# Altium schematic symbol library Diodes.SchLib: 448 symbols (part 1 of 10)
Pins are listed as number, name and electrical type; pins without a type are passive.

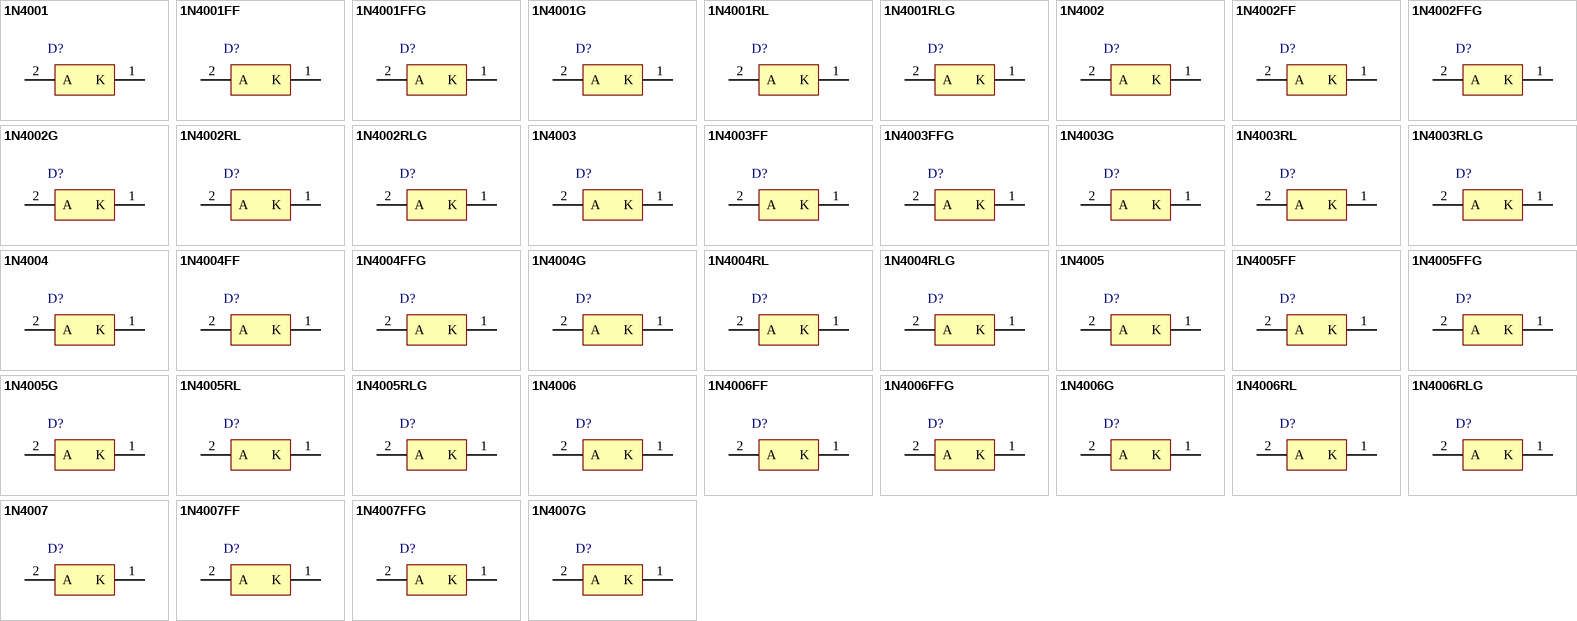
[diagram p0: symbols 1N4001 to 1N4007G]

## 1N4001
designator D?
Standard Recovery Rectifier, 2-Pin Axial_Lead, Pb-Free, Bulk Bag; Manufacturer: On Semiconductor; PartNumber: 1N4001; IFSM Max (A): 30; IO(rec) Max (A): 1; VRRM Max (V): 50; DatasheetVersion: Rev. 13; PackageVersion: Rev. U, 02/2005; PackageReference: AXIAL_LEAD-2-59-10; PackageDescription: 2-Pin, Axial Lead, Diameter 2.35 mm; Supplier 1: Digi-Key; Supplier Part Number 1: 1N4001OS-ND; Packing: Bulk Bag; RoHS: TRUE; Type: Standard Recovery; Mounting Technology: Through Hole; ComponentLink1Description: Manufacturer URL; ComponentLink1URL: http://www.onsemi.com/; ComponentLink2Description: Datasheet; ComponentLink2URL: http://www.onsemi.com/pub_link/Collateral/1N4001-D.PDF; ComponentLink3Description: Package Specification; ComponentLink3URL: http://www.onsemi.cn/pub_link/Collateral/59-10.PDF
footprint ONSC-AXIAL_LEAD-2-59-10_P (AXIAL, 2-Leads, Diameter 2.35mm)
pins: 1 K, 2 A

## 1N4001FF
designator D?
Standard Recovery Rectifier, 2-Pin Axial_Lead, Pb-Free, Bulk Box; Manufacturer: On Semiconductor; PartNumber: 1N4001FF; IFSM Max (A): 30; IO(rec) Max (A): 1; VRRM Max (V): 50; DatasheetVersion: Rev. 13; PackageVersion: Rev. U, 02/2005; PackageReference: AXIAL_LEAD-2-59-10; PackageDescription: 2-Pin, Axial Lead, Diameter 2.35 mm; Supplier 1: Mouser; Supplier Part Number 1: 863-1N4001FF; Packing: Bulk Box; RoHS: TRUE; Type: Standard Recovery; Mounting Technology: Through Hole; ComponentLink1Description: Manufacturer URL; ComponentLink1URL: http://www.onsemi.com/; ComponentLink2Description: Datasheet; ComponentLink2URL: http://www.onsemi.com/pub_link/Collateral/1N4001-D.PDF; ComponentLink3Description: Package Specification; ComponentLink3URL: http://www.onsemi.cn/pub_link/Collateral/59-10.PDF
footprint ONSC-AXIAL_LEAD-2-59-10_P (AXIAL, 2-Leads, Diameter 2.35mm)
pins: 1 K, 2 A

## 1N4001FFG
designator D?
Standard Recovery Rectifier, 2-Pin Axial_Lead, Pb-Free, Bulk Box; Manufacturer: On Semiconductor; PartNumber: 1N4001FFG; IFSM Max (A): 30; IO(rec) Max (A): 1; VRRM Max (V): 50; DatasheetVersion: Rev. 13; PackageVersion: Rev. U, 02/2005; PackageReference: AXIAL_LEAD-2-59-10; PackageDescription: 2-Pin, Axial Lead, Diameter 2.35 mm; Supplier 1: Mouser; Supplier Part Number 1: 863-1N4001FFG; Packing: Bulk Box; RoHS: TRUE; Type: Standard Recovery; Mounting Technology: Through Hole; ComponentLink1Description: Manufacturer URL; ComponentLink1URL: http://www.onsemi.com/; ComponentLink2Description: Datasheet; ComponentLink2URL: http://www.onsemi.com/pub_link/Collateral/1N4001-D.PDF; ComponentLink3Description: Package Specification; ComponentLink3URL: http://www.onsemi.cn/pub_link/Collateral/59-10.PDF
footprint ONSC-AXIAL_LEAD-2-59-10_P (AXIAL, 2-Leads, Diameter 2.35mm)
pins: 1 K, 2 A

## 1N4001G
designator D?
Standard Recovery Rectifier, 2-Pin Axial_Lead, Pb-Free, Bulk Bag; Manufacturer: On Semiconductor; PartNumber: 1N4001G; IFSM Max (A): 30; IO(rec) Max (A): 1; VRRM Max (V): 50; DatasheetVersion: Rev. 13; PackageVersion: Rev. U, 02/2005; PackageReference: AXIAL_LEAD-2-59-10; PackageDescription: 2-Pin, Axial Lead, Diameter 2.35 mm; Supplier 1: Digi-Key; Supplier Part Number 1: 1N4001GOS-ND; Supplier 2: Farnell; Supplier Part Number 2: 1458986; Supplier 3: Newark; Supplier Part Number 3: 42K2813; Supplier 4: Mouser; Supplier Part Number 4: 863-1N4001G; Packing: Bulk Bag; RoHS: TRUE; Type: Standard Recovery; Mounting Technology: Through Hole; ComponentLink1Description: Manufacturer URL; ComponentLink1URL: http://www.onsemi.com/; ComponentLink2Description: Datasheet; ComponentLink2URL: http://www.onsemi.com/pub_link/Collateral/1N4001-D.PDF; ComponentLink3Description: Package Specification; ComponentLink3URL: http://www.onsemi.cn/pub_link/Collateral/59-10.PDF
footprint ONSC-AXIAL_LEAD-2-59-10_P (AXIAL, 2-Leads, Diameter 2.35mm)
pins: 1 K, 2 A

## 1N4001RL
designator D?
Standard Recovery Rectifier, 2-Pin Axial_Lead, Pb-Free, Tape and Reel; Manufacturer: On Semiconductor; PartNumber: 1N4001RL; IFSM Max (A): 30; IO(rec) Max (A): 1; VRRM Max (V): 50; DatasheetVersion: Rev. 13; PackageVersion: Rev. U, 02/2005; PackageReference: AXIAL_LEAD-2-59-10; PackageDescription: 2-Pin, Axial Lead, Diameter 2.35 mm; Supplier 1: Digi-Key; Supplier Part Number 1: 1N4001RLOSTR-ND; Supplier 2: Digi-Key; Supplier Part Number 2: 1N4001RLOSCT-ND; Supplier 3: Mouser; Supplier Part Number 3: 863-1N4001RL; Packing: Tape and Reel; RoHS: TRUE; Type: Standard Recovery; Mounting Technology: Through Hole; ComponentLink1Description: Manufacturer URL; ComponentLink1URL: http://www.onsemi.com/; ComponentLink2Description: Datasheet; ComponentLink2URL: http://www.onsemi.com/pub_link/Collateral/1N4001-D.PDF; ComponentLink3Description: Package Specification; ComponentLink3URL: http://www.onsemi.cn/pub_link/Collateral/59-10.PDF
footprint ONSC-AXIAL_LEAD-2-59-10_P (AXIAL, 2-Leads, Diameter 2.35mm)
pins: 1 K, 2 A

## 1N4001RLG
designator D?
Standard Recovery Rectifier, 2-Pin Axial_Lead, Pb-Free, Tape and Reel; Manufacturer: On Semiconductor; PartNumber: 1N4001RLG; IFSM Max (A): 30; IO(rec) Max (A): 1; VRRM Max (V): 50; DatasheetVersion: Rev. 13; PackageVersion: Rev. U, 02/2005; PackageReference: AXIAL_LEAD-2-59-10; PackageDescription: 2-Pin, Axial Lead, Diameter 2.35 mm; Supplier 1: Digi-Key; Supplier Part Number 1: 1N4001RLGOSTR-ND; Supplier 2: Digi-Key; Supplier Part Number 2: 1N4001RLGOSCT-ND; Supplier 3: Farnell; Supplier Part Number 3: 1861230; Supplier 4: Newark; Supplier Part Number 4: 09R9749; Supplier 5: Newark; Supplier Part Number 5: 42K2814; Supplier 6: Mouser; Supplier Part Number 6: 863-1N4001RLG; Packing: Tape and Reel; RoHS: TRUE; Type: Standard Recovery; Mounting Technology: Through Hole; ComponentLink1Description: Manufacturer URL; ComponentLink1URL: http://www.onsemi.com/; ComponentLink2Description: Datasheet; ComponentLink2URL: http://www.onsemi.com/pub_link/Collateral/1N4001-D.PDF; ComponentLink3Description: Package Specification; ComponentLink3URL: http://www.onsemi.cn/pub_link/Collateral/59-10.PDF
footprint ONSC-AXIAL_LEAD-2-59-10_P (AXIAL, 2-Leads, Diameter 2.35mm)
pins: 1 K, 2 A

## 1N4002
designator D?
Standard Recovery Rectifier, 2-Pin Axial_Lead, Pb-Free, Bulk Bag; Manufacturer: On Semiconductor; PartNumber: 1N4002; IFSM Max (A): 30; IO(rec) Max (A): 1; VRRM Max (V): 100; DatasheetVersion: Rev. 13; PackageVersion: Rev. U, 02/2005; PackageReference: AXIAL_LEAD-2-59-10; PackageDescription: 2-Pin, Axial Lead, Diameter 2.35 mm; Supplier 1: Digi-Key; Supplier Part Number 1: 1N4002OS-ND; Packing: Bulk Bag; RoHS: TRUE; Type: Standard Recovery; Mounting Technology: Through Hole; ComponentLink1Description: Manufacturer URL; ComponentLink1URL: http://www.onsemi.com/; ComponentLink2Description: Datasheet; ComponentLink2URL: http://www.onsemi.com/pub_link/Collateral/1N4001-D.PDF; ComponentLink3Description: Package Specification; ComponentLink3URL: http://www.onsemi.cn/pub_link/Collateral/59-10.PDF
footprint ONSC-AXIAL_LEAD-2-59-10_P (AXIAL, 2-Leads, Diameter 2.35mm)
pins: 1 K, 2 A

## 1N4002FF
designator D?
Standard Recovery Rectifier, 2-Pin Axial_Lead, Pb-Free, Bulk Box; Manufacturer: On Semiconductor; PartNumber: 1N4002FF; IFSM Max (A): 30; IO(rec) Max (A): 1; VRRM Max (V): 100; DatasheetVersion: Rev. 13; PackageVersion: Rev. U, 02/2005; PackageReference: AXIAL_LEAD-2-59-10; PackageDescription: 2-Pin, Axial Lead, Diameter 2.35 mm; Supplier 1: Newark; Supplier Part Number 1: 75C8519; Supplier 2: Mouser; Supplier Part Number 2: 863-1N4002FF; Packing: Bulk Box; RoHS: TRUE; Type: Standard Recovery; Mounting Technology: Through Hole; ComponentLink1Description: Manufacturer URL; ComponentLink1URL: http://www.onsemi.com/; ComponentLink2Description: Datasheet; ComponentLink2URL: http://www.onsemi.com/pub_link/Collateral/1N4001-D.PDF; ComponentLink3Description: Package Specification; ComponentLink3URL: http://www.onsemi.cn/pub_link/Collateral/59-10.PDF
footprint ONSC-AXIAL_LEAD-2-59-10_P (AXIAL, 2-Leads, Diameter 2.35mm)
pins: 1 K, 2 A

## 1N4002FFG
designator D?
Standard Recovery Rectifier, 2-Pin Axial_Lead, Pb-Free, Bulk Box; Manufacturer: On Semiconductor; PartNumber: 1N4002FFG; IFSM Max (A): 30; IO(rec) Max (A): 1; VRRM Max (V): 100; DatasheetVersion: Rev. 13; PackageVersion: Rev. U, 02/2005; PackageReference: AXIAL_LEAD-2-59-10; PackageDescription: 2-Pin, Axial Lead, Diameter 2.35 mm; Supplier 1: Mouser; Supplier Part Number 1: 863-1N4002FFG; Packing: Bulk Box; RoHS: TRUE; Type: Standard Recovery; Mounting Technology: Through Hole; ComponentLink1Description: Manufacturer URL; ComponentLink1URL: http://www.onsemi.com/; ComponentLink2Description: Datasheet; ComponentLink2URL: http://www.onsemi.com/pub_link/Collateral/1N4001-D.PDF; ComponentLink3Description: Package Specification; ComponentLink3URL: http://www.onsemi.cn/pub_link/Collateral/59-10.PDF
footprint ONSC-AXIAL_LEAD-2-59-10_P (AXIAL, 2-Leads, Diameter 2.35mm)
pins: 1 K, 2 A

## 1N4002G
designator D?
Standard Recovery Rectifier, 2-Pin Axial_Lead, Pb-Free, Bulk Bag; Manufacturer: On Semiconductor; PartNumber: 1N4002G; IFSM Max (A): 30; IO(rec) Max (A): 1; VRRM Max (V): 100; DatasheetVersion: Rev. 13; PackageVersion: Rev. U, 02/2005; PackageReference: AXIAL_LEAD-2-59-10; PackageDescription: 2-Pin, Axial Lead, Diameter 2.35 mm; Supplier 1: Digi-Key; Supplier Part Number 1: 1N4002GOS-ND; Supplier 2: Farnell; Supplier Part Number 2: 1651083; Supplier 3: Newark; Supplier Part Number 3: 42K2816; Supplier 4: Mouser; Supplier Part Number 4: 863-1N4002G; Packing: Bulk Bag; RoHS: TRUE; Type: Standard Recovery; Mounting Technology: Through Hole; ComponentLink1Description: Manufacturer URL; ComponentLink1URL: http://www.onsemi.com/; ComponentLink2Description: Datasheet; ComponentLink2URL: http://www.onsemi.com/pub_link/Collateral/1N4001-D.PDF; ComponentLink3Description: Package Specification; ComponentLink3URL: http://www.onsemi.cn/pub_link/Collateral/59-10.PDF
footprint ONSC-AXIAL_LEAD-2-59-10_P (AXIAL, 2-Leads, Diameter 2.35mm)
pins: 1 K, 2 A

## 1N4002RL
designator D?
Standard Recovery Rectifier, 2-Pin Axial_Lead, Pb-Free, Tape and Reel; Manufacturer: On Semiconductor; PartNumber: 1N4002RL; IFSM Max (A): 30; IO(rec) Max (A): 1; VRRM Max (V): 100; DatasheetVersion: Rev. 13; PackageVersion: Rev. U, 02/2005; PackageReference: AXIAL_LEAD-2-59-10; PackageDescription: 2-Pin, Axial Lead, Diameter 2.35 mm; Supplier 1: Digi-Key; Supplier Part Number 1: 1N4002RLOSTR-ND; Supplier 2: Digi-Key; Supplier Part Number 2: 1N4002RLOSCT-ND; Supplier 3: Mouser; Supplier Part Number 3: 863-1N4002RL; Packing: Tape and Reel; RoHS: TRUE; Type: Standard Recovery; Mounting Technology: Through Hole; ComponentLink1Description: Manufacturer URL; ComponentLink1URL: http://www.onsemi.com/; ComponentLink2Description: Datasheet; ComponentLink2URL: http://www.onsemi.com/pub_link/Collateral/1N4001-D.PDF; ComponentLink3Description: Package Specification; ComponentLink3URL: http://www.onsemi.cn/pub_link/Collateral/59-10.PDF
footprint ONSC-AXIAL_LEAD-2-59-10_P (AXIAL, 2-Leads, Diameter 2.35mm)
pins: 1 K, 2 A

## 1N4002RLG
designator D?
Standard Recovery Rectifier, 2-Pin Axial_Lead, Pb-Free, Tape and Reel; Manufacturer: On Semiconductor; PartNumber: 1N4002RLG; IFSM Max (A): 30; IO(rec) Max (A): 1; VRRM Max (V): 100; DatasheetVersion: Rev. 13; PackageVersion: Rev. U, 02/2005; PackageReference: AXIAL_LEAD-2-59-10; PackageDescription: 2-Pin, Axial Lead, Diameter 2.35 mm; Supplier 1: Digi-Key; Supplier Part Number 1: 1N4002RLGOSTR-ND; Supplier 2: Digi-Key; Supplier Part Number 2: 1N4002RLGOSCT-ND; Supplier 3: Farnell; Supplier Part Number 3: 1264225; Supplier 4: Farnell; Supplier Part Number 4: 1876165; Supplier 5: Newark; Supplier Part Number 5: 42K2817; Supplier 6: Newark; Supplier Part Number 6: 84K8825; Supplier 7: Mouser; Supplier Part Number 7: 863-1N4002RLG; Packing: Tape and Reel; RoHS: TRUE; Type: Standard Recovery; Mounting Technology: Through Hole; ComponentLink1Description: Manufacturer URL; ComponentLink1URL: http://www.onsemi.com/; ComponentLink2Description: Datasheet; ComponentLink2URL: http://www.onsemi.com/pub_link/Collateral/1N4001-D.PDF; ComponentLink3Description: Package Specification; ComponentLink3URL: http://www.onsemi.cn/pub_link/Collateral/59-10.PDF
footprint ONSC-AXIAL_LEAD-2-59-10_P (AXIAL, 2-Leads, Diameter 2.35mm)
pins: 1 K, 2 A

## 1N4003
designator D?
Standard Recovery Rectifier, 2-Pin Axial_Lead, Pb-Free, Bulk Bag; Manufacturer: On Semiconductor; PartNumber: 1N4003; IFSM Max (A): 30; IO(rec) Max (A): 1; VRRM Max (V): 200; DatasheetVersion: Rev. 13; PackageVersion: Rev. U, 02/2005; PackageReference: AXIAL_LEAD-2-59-10; PackageDescription: 2-Pin, Axial Lead, Diameter 2.35 mm; Supplier 1: Digi-Key; Supplier Part Number 1: 1N4003OS-ND; Packing: Bulk Bag; RoHS: TRUE; Type: Standard Recovery; Mounting Technology: Through Hole; ComponentLink1Description: Manufacturer URL; ComponentLink1URL: http://www.onsemi.com/; ComponentLink2Description: Datasheet; ComponentLink2URL: http://www.onsemi.com/pub_link/Collateral/1N4001-D.PDF; ComponentLink3Description: Package Specification; ComponentLink3URL: http://www.onsemi.cn/pub_link/Collateral/59-10.PDF
footprint ONSC-AXIAL_LEAD-2-59-10_P (AXIAL, 2-Leads, Diameter 2.35mm)
pins: 1 K, 2 A

## 1N4003FF
designator D?
Standard Recovery Rectifier, 2-Pin Axial_Lead, Pb-Free, Bulk Box; Manufacturer: On Semiconductor; PartNumber: 1N4003FF; IFSM Max (A): 30; IO(rec) Max (A): 1; VRRM Max (V): 200; DatasheetVersion: Rev. 13; PackageVersion: Rev. U, 02/2005; PackageReference: AXIAL_LEAD-2-59-10; PackageDescription: 2-Pin, Axial Lead, Diameter 2.35 mm; Supplier 1: Mouser; Supplier Part Number 1: 863-1N4003FF; Packing: Bulk Box; RoHS: TRUE; Type: Standard Recovery; Mounting Technology: Through Hole; ComponentLink1Description: Manufacturer URL; ComponentLink1URL: http://www.onsemi.com/; ComponentLink2Description: Datasheet; ComponentLink2URL: http://www.onsemi.com/pub_link/Collateral/1N4001-D.PDF; ComponentLink3Description: Package Specification; ComponentLink3URL: http://www.onsemi.cn/pub_link/Collateral/59-10.PDF
footprint ONSC-AXIAL_LEAD-2-59-10_P (AXIAL, 2-Leads, Diameter 2.35mm)
pins: 1 K, 2 A

## 1N4003FFG
designator D?
Standard Recovery Rectifier, 2-Pin Axial_Lead, Pb-Free, Bulk Box; Manufacturer: On Semiconductor; PartNumber: 1N4003FFG; IFSM Max (A): 30; IO(rec) Max (A): 1; VRRM Max (V): 200; DatasheetVersion: Rev. 13; PackageVersion: Rev. U, 02/2005; PackageReference: AXIAL_LEAD-2-59-10; PackageDescription: 2-Pin, Axial Lead, Diameter 2.35 mm; Supplier 1: Mouser; Supplier Part Number 1: 863-1N4003FFG; Packing: Bulk Box; RoHS: TRUE; Type: Standard Recovery; Mounting Technology: Through Hole; ComponentLink1Description: Manufacturer URL; ComponentLink1URL: http://www.onsemi.com/; ComponentLink2Description: Datasheet; ComponentLink2URL: http://www.onsemi.com/pub_link/Collateral/1N4001-D.PDF; ComponentLink3Description: Package Specification; ComponentLink3URL: http://www.onsemi.cn/pub_link/Collateral/59-10.PDF
footprint ONSC-AXIAL_LEAD-2-59-10_P (AXIAL, 2-Leads, Diameter 2.35mm)
pins: 1 K, 2 A

## 1N4003G
designator D?
Standard Recovery Rectifier, 2-Pin Axial_Lead, Pb-Free, Bulk Bag; Manufacturer: On Semiconductor; PartNumber: 1N4003G; IFSM Max (A): 30; IO(rec) Max (A): 1; VRRM Max (V): 200; DatasheetVersion: Rev. 13; PackageVersion: Rev. U, 02/2005; PackageReference: AXIAL_LEAD-2-59-10; PackageDescription: 2-Pin, Axial Lead, Diameter 2.35 mm; Supplier 1: Digi-Key; Supplier Part Number 1: 1N4003GOS-ND; Supplier 2: Farnell; Supplier Part Number 2: 1126298; Supplier 3: Newark; Supplier Part Number 3: 42K2819; Supplier 4: Mouser; Supplier Part Number 4: 863-1N4003G; Packing: Bulk Bag; RoHS: TRUE; Type: Standard Recovery; Mounting Technology: Through Hole; ComponentLink1Description: Manufacturer URL; ComponentLink1URL: http://www.onsemi.com/; ComponentLink2Description: Datasheet; ComponentLink2URL: http://www.onsemi.com/pub_link/Collateral/1N4001-D.PDF; ComponentLink3Description: Package Specification; ComponentLink3URL: http://www.onsemi.cn/pub_link/Collateral/59-10.PDF
footprint ONSC-AXIAL_LEAD-2-59-10_P (AXIAL, 2-Leads, Diameter 2.35mm)
pins: 1 K, 2 A

## 1N4003RL
designator D?
Standard Recovery Rectifier, 2-Pin Axial_Lead, Pb-Free, Tape and Reel; Manufacturer: On Semiconductor; PartNumber: 1N4003RL; IFSM Max (A): 30; IO(rec) Max (A): 1; VRRM Max (V): 200; DatasheetVersion: Rev. 13; PackageVersion: Rev. U, 02/2005; PackageReference: AXIAL_LEAD-2-59-10; PackageDescription: 2-Pin, Axial Lead, Diameter 2.35 mm; Supplier 1: Digi-Key; Supplier Part Number 1: 1N4003RLOSTR-ND; Supplier 2: Digi-Key; Supplier Part Number 2: 1N4003RLOSCT-ND; Supplier 3: Mouser; Supplier Part Number 3: 863-1N4003RL; Packing: Tape and Reel; RoHS: TRUE; Type: Standard Recovery; Mounting Technology: Through Hole; ComponentLink1Description: Manufacturer URL; ComponentLink1URL: http://www.onsemi.com/; ComponentLink2Description: Datasheet; ComponentLink2URL: http://www.onsemi.com/pub_link/Collateral/1N4001-D.PDF; ComponentLink3Description: Package Specification; ComponentLink3URL: http://www.onsemi.cn/pub_link/Collateral/59-10.PDF
footprint ONSC-AXIAL_LEAD-2-59-10_P (AXIAL, 2-Leads, Diameter 2.35mm)
pins: 1 K, 2 A

## 1N4003RLG
designator D?
Standard Recovery Rectifier, 2-Pin Axial_Lead, Pb-Free, Tape and Reel; Manufacturer: On Semiconductor; PartNumber: 1N4003RLG; IFSM Max (A): 30; IO(rec) Max (A): 1; VRRM Max (V): 200; DatasheetVersion: Rev. 13; PackageVersion: Rev. U, 02/2005; PackageReference: AXIAL_LEAD-2-59-10; PackageDescription: 2-Pin, Axial Lead, Diameter 2.35 mm; Supplier 1: Digi-Key; Supplier Part Number 1: 1N4003RLGOSTR-ND; Supplier 2: Digi-Key; Supplier Part Number 2: 1N4003RLGOSCT-ND; Supplier 3: Farnell; Supplier Part Number 3: 1278505; Supplier 4: Farnell; Supplier Part Number 4: 1899546; Supplier 5: Newark; Supplier Part Number 5: 42K2820; Supplier 6: Newark; Supplier Part Number 6: 84K8826; Supplier 7: Mouser; Supplier Part Number 7: 863-1N4003RLG; Packing: Tape and Reel; RoHS: TRUE; Type: Standard Recovery; Mounting Technology: Through Hole; ComponentLink1Description: Manufacturer URL; ComponentLink1URL: http://www.onsemi.com/; ComponentLink2Description: Datasheet; ComponentLink2URL: http://www.onsemi.com/pub_link/Collateral/1N4001-D.PDF; ComponentLink3Description: Package Specification; ComponentLink3URL: http://www.onsemi.cn/pub_link/Collateral/59-10.PDF
footprint ONSC-AXIAL_LEAD-2-59-10_P (AXIAL, 2-Leads, Diameter 2.35mm)
pins: 1 K, 2 A

## 1N4004
designator D?
Standard Recovery Rectifier, 2-Pin Axial_Lead, Pb-Free, Bulk Bag; Manufacturer: On Semiconductor; PartNumber: 1N4004; IFSM Max (A): 30; IO(rec) Max (A): 1; VRRM Max (V): 400; DatasheetVersion: Rev. 13; PackageVersion: Rev. U, 02/2005; PackageReference: AXIAL_LEAD-2-59-10; PackageDescription: 2-Pin, Axial Lead, Diameter 2.35 mm; Supplier 1: Digi-Key; Supplier Part Number 1: 1N4004OS-ND; Packing: Bulk Bag; RoHS: TRUE; Type: Standard Recovery; Mounting Technology: Through Hole; ComponentLink1Description: Manufacturer URL; ComponentLink1URL: http://www.onsemi.com/; ComponentLink2Description: Datasheet; ComponentLink2URL: http://www.onsemi.com/pub_link/Collateral/1N4001-D.PDF; ComponentLink3Description: Package Specification; ComponentLink3URL: http://www.onsemi.cn/pub_link/Collateral/59-10.PDF
footprint ONSC-AXIAL_LEAD-2-59-10_P (AXIAL, 2-Leads, Diameter 2.35mm)
pins: 1 K, 2 A

## 1N4004FF
designator D?
Standard Recovery Rectifier, 2-Pin Axial_Lead, Pb-Free, Bulk Box; Manufacturer: On Semiconductor; PartNumber: 1N4004FF; IFSM Max (A): 30; IO(rec) Max (A): 1; VRRM Max (V): 400; DatasheetVersion: Rev. 13; PackageVersion: Rev. U, 02/2005; PackageReference: AXIAL_LEAD-2-59-10; PackageDescription: 2-Pin, Axial Lead, Diameter 2.35 mm; Supplier 1: Mouser; Supplier Part Number 1: 863-1N4004FF; Packing: Bulk Box; RoHS: TRUE; Type: Standard Recovery; Mounting Technology: Through Hole; ComponentLink1Description: Manufacturer URL; ComponentLink1URL: http://www.onsemi.com/; ComponentLink2Description: Datasheet; ComponentLink2URL: http://www.onsemi.com/pub_link/Collateral/1N4001-D.PDF; ComponentLink3Description: Package Specification; ComponentLink3URL: http://www.onsemi.cn/pub_link/Collateral/59-10.PDF
footprint ONSC-AXIAL_LEAD-2-59-10_P (AXIAL, 2-Leads, Diameter 2.35mm)
pins: 1 K, 2 A

## 1N4004FFG
designator D?
Standard Recovery Rectifier, 2-Pin Axial_Lead, Pb-Free, Bulk Box; Manufacturer: On Semiconductor; PartNumber: 1N4004FFG; IFSM Max (A): 30; IO(rec) Max (A): 1; VRRM Max (V): 400; DatasheetVersion: Rev. 13; PackageVersion: Rev. U, 02/2005; PackageReference: AXIAL_LEAD-2-59-10; PackageDescription: 2-Pin, Axial Lead, Diameter 2.35 mm; Supplier 1: Mouser; Supplier Part Number 1: 863-1N4004FFG; Packing: Bulk Box; RoHS: TRUE; Type: Standard Recovery; Mounting Technology: Through Hole; ComponentLink1Description: Manufacturer URL; ComponentLink1URL: http://www.onsemi.com/; ComponentLink2Description: Datasheet; ComponentLink2URL: http://www.onsemi.com/pub_link/Collateral/1N4001-D.PDF; ComponentLink3Description: Package Specification; ComponentLink3URL: http://www.onsemi.cn/pub_link/Collateral/59-10.PDF
footprint ONSC-AXIAL_LEAD-2-59-10_P (AXIAL, 2-Leads, Diameter 2.35mm)
pins: 1 K, 2 A

## 1N4004G
designator D?
Standard Recovery Rectifier, 2-Pin Axial_Lead, Pb-Free, Bulk Bag; Manufacturer: On Semiconductor; PartNumber: 1N4004G; IFSM Max (A): 30; IO(rec) Max (A): 1; VRRM Max (V): 400; DatasheetVersion: Rev. 13; PackageVersion: Rev. U, 02/2005; PackageReference: AXIAL_LEAD-2-59-10; PackageDescription: 2-Pin, Axial Lead, Diameter 2.35 mm; Supplier 1: Digi-Key; Supplier Part Number 1: 1N4004GOS-ND; Supplier 2: Farnell; Supplier Part Number 2: 1651084; Supplier 3: Newark; Supplier Part Number 3: 42K2822; Supplier 4: Mouser; Supplier Part Number 4: 863-1N4004G; Packing: Bulk Bag; RoHS: TRUE; Type: Standard Recovery; Mounting Technology: Through Hole; ComponentLink1Description: Manufacturer URL; ComponentLink1URL: http://www.onsemi.com/; ComponentLink2Description: Datasheet; ComponentLink2URL: http://www.onsemi.com/pub_link/Collateral/1N4001-D.PDF; ComponentLink3Description: Package Specification; ComponentLink3URL: http://www.onsemi.cn/pub_link/Collateral/59-10.PDF
footprint ONSC-AXIAL_LEAD-2-59-10_P (AXIAL, 2-Leads, Diameter 2.35mm)
pins: 1 K, 2 A

## 1N4004RL
designator D?
Standard Recovery Rectifier, 2-Pin Axial_Lead, Pb-Free, Tape and Reel; Manufacturer: On Semiconductor; PartNumber: 1N4004RL; IFSM Max (A): 30; IO(rec) Max (A): 1; VRRM Max (V): 400; DatasheetVersion: Rev. 13; PackageVersion: Rev. U, 02/2005; PackageReference: AXIAL_LEAD-2-59-10; PackageDescription: 2-Pin, Axial Lead, Diameter 2.35 mm; Supplier 1: Digi-Key; Supplier Part Number 1: 1N4004RLOSTR-ND; Supplier 2: Farnell; Supplier Part Number 2: 9556109; Supplier 3: Newark; Supplier Part Number 3: 39K0589; Supplier 4: Newark; Supplier Part Number 4: 16F8295; Supplier 5: Mouser; Supplier Part Number 5: 863-1N4004RL; Packing: Tape and Reel; RoHS: TRUE; Type: Standard Recovery; Mounting Technology: Through Hole; ComponentLink1Description: Manufacturer URL; ComponentLink1URL: http://www.onsemi.com/; ComponentLink2Description: Datasheet; ComponentLink2URL: http://www.onsemi.com/pub_link/Collateral/1N4001-D.PDF; ComponentLink3Description: Package Specification; ComponentLink3URL: http://www.onsemi.cn/pub_link/Collateral/59-10.PDF
footprint ONSC-AXIAL_LEAD-2-59-10_P (AXIAL, 2-Leads, Diameter 2.35mm)
pins: 1 K, 2 A

## 1N4004RLG
designator D?
Standard Recovery Rectifier, 2-Pin Axial_Lead, Pb-Free, Tape and Reel; Manufacturer: On Semiconductor; PartNumber: 1N4004RLG; IFSM Max (A): 30; IO(rec) Max (A): 1; VRRM Max (V): 400; DatasheetVersion: Rev. 13; PackageVersion: Rev. U, 02/2005; PackageReference: AXIAL_LEAD-2-59-10; PackageDescription: 2-Pin, Axial Lead, Diameter 2.35 mm; Supplier 1: Digi-Key; Supplier Part Number 1: 1N4004RLGOSTR-ND; Supplier 2: Digi-Key; Supplier Part Number 2: 1N4004RLGOSCT-ND; Supplier 3: Farnell; Supplier Part Number 3: 2317685; Supplier 4: Farnell; Supplier Part Number 4: 1278506; Supplier 5: Newark; Supplier Part Number 5: 42K2823; Supplier 6: Newark; Supplier Part Number 6: 84K8827; Supplier 7: Mouser; Supplier Part Number 7: 863-1N4004RLG; Packing: Tape and Reel; RoHS: TRUE; Type: Standard Recovery; Mounting Technology: Through Hole; ComponentLink1Description: Manufacturer URL; ComponentLink1URL: http://www.onsemi.com/; ComponentLink2Description: Datasheet; ComponentLink2URL: http://www.onsemi.com/pub_link/Collateral/1N4001-D.PDF; ComponentLink3Description: Package Specification; ComponentLink3URL: http://www.onsemi.cn/pub_link/Collateral/59-10.PDF
footprint ONSC-AXIAL_LEAD-2-59-10_P (AXIAL, 2-Leads, Diameter 2.35mm)
pins: 1 K, 2 A

## 1N4005
designator D?
Standard Recovery Rectifier, 2-Pin Axial_Lead, Pb-Free, Bulk Bag; Manufacturer: On Semiconductor; PartNumber: 1N4005; IFSM Max (A): 30; IO(rec) Max (A): 1; VRRM Max (V): 600; DatasheetVersion: Rev. 13; PackageVersion: Rev. U, 02/2005; PackageReference: AXIAL_LEAD-2-59-10; PackageDescription: 2-Pin, Axial Lead, Diameter 2.35 mm; Supplier 1: Digi-Key; Supplier Part Number 1: 1N4005OS-ND; Packing: Bulk Bag; RoHS: TRUE; Type: Standard Recovery; Mounting Technology: Through Hole; ComponentLink1Description: Manufacturer URL; ComponentLink1URL: http://www.onsemi.com/; ComponentLink2Description: Datasheet; ComponentLink2URL: http://www.onsemi.com/pub_link/Collateral/1N4001-D.PDF; ComponentLink3Description: Package Specification; ComponentLink3URL: http://www.onsemi.cn/pub_link/Collateral/59-10.PDF
footprint ONSC-AXIAL_LEAD-2-59-10_P (AXIAL, 2-Leads, Diameter 2.35mm)
pins: 1 K, 2 A

## 1N4005FF
designator D?
Standard Recovery Rectifier, 2-Pin Axial_Lead, Pb-Free, Bulk Box; Manufacturer: On Semiconductor; PartNumber: 1N4005FF; IFSM Max (A): 30; IO(rec) Max (A): 1; VRRM Max (V): 600; DatasheetVersion: Rev. 13; PackageVersion: Rev. U, 02/2005; PackageReference: AXIAL_LEAD-2-59-10; PackageDescription: 2-Pin, Axial Lead, Diameter 2.35 mm; Supplier 1: Mouser; Supplier Part Number 1: 863-1N4005FF; Packing: Bulk Box; RoHS: TRUE; Type: Standard Recovery; Mounting Technology: Through Hole; ComponentLink1Description: Manufacturer URL; ComponentLink1URL: http://www.onsemi.com/; ComponentLink2Description: Datasheet; ComponentLink2URL: http://www.onsemi.com/pub_link/Collateral/1N4001-D.PDF; ComponentLink3Description: Package Specification; ComponentLink3URL: http://www.onsemi.cn/pub_link/Collateral/59-10.PDF
footprint ONSC-AXIAL_LEAD-2-59-10_P (AXIAL, 2-Leads, Diameter 2.35mm)
pins: 1 K, 2 A

## 1N4005FFG
designator D?
Standard Recovery Rectifier, 2-Pin Axial_Lead, Pb-Free, Bulk Box; Manufacturer: On Semiconductor; PartNumber: 1N4005FFG; IFSM Max (A): 30; IO(rec) Max (A): 1; VRRM Max (V): 600; DatasheetVersion: Rev. 13; PackageVersion: Rev. U, 02/2005; PackageReference: AXIAL_LEAD-2-59-10; PackageDescription: 2-Pin, Axial Lead, Diameter 2.35 mm; Supplier 1: Mouser; Supplier Part Number 1: 863-1N4005FFG; Packing: Bulk Box; RoHS: TRUE; Type: Standard Recovery; Mounting Technology: Through Hole; ComponentLink1Description: Manufacturer URL; ComponentLink1URL: http://www.onsemi.com/; ComponentLink2Description: Datasheet; ComponentLink2URL: http://www.onsemi.com/pub_link/Collateral/1N4001-D.PDF; ComponentLink3Description: Package Specification; ComponentLink3URL: http://www.onsemi.cn/pub_link/Collateral/59-10.PDF
footprint ONSC-AXIAL_LEAD-2-59-10_P (AXIAL, 2-Leads, Diameter 2.35mm)
pins: 1 K, 2 A

## 1N4005G
designator D?
Standard Recovery Rectifier, 2-Pin Axial_Lead, Pb-Free, Bulk Bag; Manufacturer: On Semiconductor; PartNumber: 1N4005G; IFSM Max (A): 30; IO(rec) Max (A): 1; VRRM Max (V): 600; DatasheetVersion: Rev. 13; PackageVersion: Rev. U, 02/2005; PackageReference: AXIAL_LEAD-2-59-10; PackageDescription: 2-Pin, Axial Lead, Diameter 2.35 mm; Supplier 1: Digi-Key; Supplier Part Number 1: 1N4005GOS-ND; Supplier 2: Farnell; Supplier Part Number 2: 1096695; Supplier 3: Newark; Supplier Part Number 3: 42K2825; Supplier 4: Mouser; Supplier Part Number 4: 863-1N4005G; Packing: Bulk Bag; RoHS: TRUE; Type: Standard Recovery; Mounting Technology: Through Hole; ComponentLink1Description: Manufacturer URL; ComponentLink1URL: http://www.onsemi.com/; ComponentLink2Description: Datasheet; ComponentLink2URL: http://www.onsemi.com/pub_link/Collateral/1N4001-D.PDF; ComponentLink3Description: Package Specification; ComponentLink3URL: http://www.onsemi.cn/pub_link/Collateral/59-10.PDF
footprint ONSC-AXIAL_LEAD-2-59-10_P (AXIAL, 2-Leads, Diameter 2.35mm)
pins: 1 K, 2 A

## 1N4005RL
designator D?
Standard Recovery Rectifier, 2-Pin Axial_Lead, Pb-Free, Tape and Reel; Manufacturer: On Semiconductor; PartNumber: 1N4005RL; IFSM Max (A): 30; IO(rec) Max (A): 1; VRRM Max (V): 600; DatasheetVersion: Rev. 13; PackageVersion: Rev. U, 02/2005; PackageReference: AXIAL_LEAD-2-59-10; PackageDescription: 2-Pin, Axial Lead, Diameter 2.35 mm; Supplier 1: Digi-Key; Supplier Part Number 1: 1N4005RLOSTR-ND; Supplier 2: Mouser; Supplier Part Number 2: 863-1N4005RL; Packing: Tape and Reel; RoHS: TRUE; Type: Standard Recovery; Mounting Technology: Through Hole; ComponentLink1Description: Manufacturer URL; ComponentLink1URL: http://www.onsemi.com/; ComponentLink2Description: Datasheet; ComponentLink2URL: http://www.onsemi.com/pub_link/Collateral/1N4001-D.PDF; ComponentLink3Description: Package Specification; ComponentLink3URL: http://www.onsemi.cn/pub_link/Collateral/59-10.PDF
footprint ONSC-AXIAL_LEAD-2-59-10_P (AXIAL, 2-Leads, Diameter 2.35mm)
pins: 1 K, 2 A

## 1N4005RLG
designator D?
Standard Recovery Rectifier, 2-Pin Axial_Lead, Pb-Free, Tape and Reel; Manufacturer: On Semiconductor; PartNumber: 1N4005RLG; IFSM Max (A): 30; IO(rec) Max (A): 1; VRRM Max (V): 600; DatasheetVersion: Rev. 13; PackageVersion: Rev. U, 02/2005; PackageReference: AXIAL_LEAD-2-59-10; PackageDescription: 2-Pin, Axial Lead, Diameter 2.35 mm; Supplier 1: Digi-Key; Supplier Part Number 1: 1N4005RLGOSTR-ND; Supplier 2: Digi-Key; Supplier Part Number 2: 1N4005RLGOSCT-ND; Supplier 3: Farnell; Supplier Part Number 3: 1278507; Supplier 4: Farnell; Supplier Part Number 4: 1899547; Supplier 5: Newark; Supplier Part Number 5: 42K2826; Supplier 6: Newark; Supplier Part Number 6: 84K8828; Supplier 7: Mouser; Supplier Part Number 7: 863-1N4005RLG; Packing: Tape and Reel; RoHS: TRUE; Type: Standard Recovery; Mounting Technology: Through Hole; ComponentLink1Description: Manufacturer URL; ComponentLink1URL: http://www.onsemi.com/; ComponentLink2Description: Datasheet; ComponentLink2URL: http://www.onsemi.com/pub_link/Collateral/1N4001-D.PDF; ComponentLink3Description: Package Specification; ComponentLink3URL: http://www.onsemi.cn/pub_link/Collateral/59-10.PDF
footprint ONSC-AXIAL_LEAD-2-59-10_P (AXIAL, 2-Leads, Diameter 2.35mm)
pins: 1 K, 2 A

## 1N4006
designator D?
Standard Recovery Rectifier, 2-Pin Axial_Lead, Pb-Free, Bulk Bag; Manufacturer: On Semiconductor; PartNumber: 1N4006; IFSM Max (A): 30; IO(rec) Max (A): 1; VRRM Max (V): 800; DatasheetVersion: Rev. 13; PackageVersion: Rev. U, 02/2005; PackageReference: AXIAL_LEAD-2-59-10; PackageDescription: 2-Pin, Axial Lead, Diameter 2.35 mm; Supplier 1: Digi-Key; Supplier Part Number 1: 1N4006OS-ND; Packing: Bulk Bag; RoHS: TRUE; Type: Standard Recovery; Mounting Technology: Through Hole; ComponentLink1Description: Manufacturer URL; ComponentLink1URL: http://www.onsemi.com/; ComponentLink2Description: Datasheet; ComponentLink2URL: http://www.onsemi.com/pub_link/Collateral/1N4001-D.PDF; ComponentLink3Description: Package Specification; ComponentLink3URL: http://www.onsemi.cn/pub_link/Collateral/59-10.PDF
footprint ONSC-AXIAL_LEAD-2-59-10_P (AXIAL, 2-Leads, Diameter 2.35mm)
pins: 1 K, 2 A

## 1N4006FF
designator D?
Standard Recovery Rectifier, 2-Pin Axial_Lead, Pb-Free, Bulk Box; Manufacturer: On Semiconductor; PartNumber: 1N4006FF; IFSM Max (A): 30; IO(rec) Max (A): 1; VRRM Max (V): 800; DatasheetVersion: Rev. 13; PackageVersion: Rev. U, 02/2005; PackageReference: AXIAL_LEAD-2-59-10; PackageDescription: 2-Pin, Axial Lead, Diameter 2.35 mm; Supplier 1: Digi-Key; Supplier Part Number 1: 1N4006FF-ND; Supplier 2: Mouser; Supplier Part Number 2: 863-1N4006FF; Packing: Bulk Box; RoHS: TRUE; Type: Standard Recovery; Mounting Technology: Through Hole; ComponentLink1Description: Manufacturer URL; ComponentLink1URL: http://www.onsemi.com/; ComponentLink2Description: Datasheet; ComponentLink2URL: http://www.onsemi.com/pub_link/Collateral/1N4001-D.PDF; ComponentLink3Description: Package Specification; ComponentLink3URL: http://www.onsemi.cn/pub_link/Collateral/59-10.PDF
footprint ONSC-AXIAL_LEAD-2-59-10_P (AXIAL, 2-Leads, Diameter 2.35mm)
pins: 1 K, 2 A

## 1N4006FFG
designator D?
Standard Recovery Rectifier, 2-Pin Axial_Lead, Pb-Free, Bulk Box; Manufacturer: On Semiconductor; PartNumber: 1N4006FFG; IFSM Max (A): 30; IO(rec) Max (A): 1; VRRM Max (V): 800; DatasheetVersion: Rev. 13; PackageVersion: Rev. U, 02/2005; PackageReference: AXIAL_LEAD-2-59-10; PackageDescription: 2-Pin, Axial Lead, Diameter 2.35 mm; Supplier 1: Digi-Key; Supplier Part Number 1: 1N4006FFG-ND; Supplier 2: Mouser; Supplier Part Number 2: 863-1N4006FFG; Packing: Bulk Box; RoHS: TRUE; Type: Standard Recovery; Mounting Technology: Through Hole; ComponentLink1Description: Manufacturer URL; ComponentLink1URL: http://www.onsemi.com/; ComponentLink2Description: Datasheet; ComponentLink2URL: http://www.onsemi.com/pub_link/Collateral/1N4001-D.PDF; ComponentLink3Description: Package Specification; ComponentLink3URL: http://www.onsemi.cn/pub_link/Collateral/59-10.PDF
footprint ONSC-AXIAL_LEAD-2-59-10_P (AXIAL, 2-Leads, Diameter 2.35mm)
pins: 1 K, 2 A

## 1N4006G
designator D?
Standard Recovery Rectifier, 2-Pin Axial_Lead, Pb-Free, Bulk Bag; Manufacturer: On Semiconductor; PartNumber: 1N4006G; IFSM Max (A): 30; IO(rec) Max (A): 1; VRRM Max (V): 800; DatasheetVersion: Rev. 13; PackageVersion: Rev. U, 02/2005; PackageReference: AXIAL_LEAD-2-59-10; PackageDescription: 2-Pin, Axial Lead, Diameter 2.35 mm; Supplier 1: Digi-Key; Supplier Part Number 1: 1N4006GOS-ND; Supplier 2: Farnell; Supplier Part Number 2: 1126300; Supplier 3: Newark; Supplier Part Number 3: 42K2828; Supplier 4: Mouser; Supplier Part Number 4: 863-1N4006G; Packing: Bulk Bag; RoHS: TRUE; Type: Standard Recovery; Mounting Technology: Through Hole; ComponentLink1Description: Manufacturer URL; ComponentLink1URL: http://www.onsemi.com/; ComponentLink2Description: Datasheet; ComponentLink2URL: http://www.onsemi.com/pub_link/Collateral/1N4001-D.PDF; ComponentLink3Description: Package Specification; ComponentLink3URL: http://www.onsemi.cn/pub_link/Collateral/59-10.PDF
footprint ONSC-AXIAL_LEAD-2-59-10_P (AXIAL, 2-Leads, Diameter 2.35mm)
pins: 1 K, 2 A

## 1N4006RL
designator D?
Standard Recovery Rectifier, 2-Pin Axial_Lead, Pb-Free, Tape and Reel; Manufacturer: On Semiconductor; PartNumber: 1N4006RL; IFSM Max (A): 30; IO(rec) Max (A): 1; VRRM Max (V): 800; DatasheetVersion: Rev. 13; PackageVersion: Rev. U, 02/2005; PackageReference: AXIAL_LEAD-2-59-10; PackageDescription: 2-Pin, Axial Lead, Diameter 2.35 mm; Supplier 1: Digi-Key; Supplier Part Number 1: 1N4006RLOSTR-ND; Supplier 2: Digi-Key; Supplier Part Number 2: 1N4006RLOSCT-ND; Supplier 3: Mouser; Supplier Part Number 3: 863-1N4006RL; Packing: Tape and Reel; RoHS: TRUE; Type: Standard Recovery; Mounting Technology: Through Hole; ComponentLink1Description: Manufacturer URL; ComponentLink1URL: http://www.onsemi.com/; ComponentLink2Description: Datasheet; ComponentLink2URL: http://www.onsemi.com/pub_link/Collateral/1N4001-D.PDF; ComponentLink3Description: Package Specification; ComponentLink3URL: http://www.onsemi.cn/pub_link/Collateral/59-10.PDF
footprint ONSC-AXIAL_LEAD-2-59-10_P (AXIAL, 2-Leads, Diameter 2.35mm)
pins: 1 K, 2 A

## 1N4006RLG
designator D?
Standard Recovery Rectifier, 2-Pin Axial_Lead, Pb-Free, Tape and Reel; Manufacturer: On Semiconductor; PartNumber: 1N4006RLG; IFSM Max (A): 30; IO(rec) Max (A): 1; VRRM Max (V): 800; DatasheetVersion: Rev. 13; PackageVersion: Rev. U, 02/2005; PackageReference: AXIAL_LEAD-2-59-10; PackageDescription: 2-Pin, Axial Lead, Diameter 2.35 mm; Supplier 1: Digi-Key; Supplier Part Number 1: 1N4006RLGOSTR-ND; Supplier 2: Digi-Key; Supplier Part Number 2: 1N4006RLGOSCT-ND; Supplier 3: Farnell; Supplier Part Number 3: 1278508; Supplier 4: Farnell; Supplier Part Number 4: 1878536; Supplier 5: Newark; Supplier Part Number 5: 84K8829; Supplier 6: Newark; Supplier Part Number 6: 42K2829; Supplier 7: Mouser; Supplier Part Number 7: 863-1N4006RLG; Packing: Tape and Reel; RoHS: TRUE; Type: Standard Recovery; Mounting Technology: Through Hole; ComponentLink1Description: Manufacturer URL; ComponentLink1URL: http://www.onsemi.com/; ComponentLink2Description: Datasheet; ComponentLink2URL: http://www.onsemi.com/pub_link/Collateral/1N4001-D.PDF; ComponentLink3Description: Package Specification; ComponentLink3URL: http://www.onsemi.cn/pub_link/Collateral/59-10.PDF
footprint ONSC-AXIAL_LEAD-2-59-10_P (AXIAL, 2-Leads, Diameter 2.35mm)
pins: 1 K, 2 A

## 1N4007
designator D?
Standard Recovery Rectifier, 2-Pin Axial_Lead, Pb-Free, Bulk Bag; Manufacturer: On Semiconductor; PartNumber: 1N4007; IFSM Max (A): 30; IO(rec) Max (A): 1; VRRM Max (V): 1000; DatasheetVersion: Rev. 13; PackageVersion: Rev. U, 02/2005; PackageReference: AXIAL_LEAD-2-59-10; PackageDescription: 2-Pin, Axial Lead, Diameter 2.35 mm; Supplier 1: Digi-Key; Supplier Part Number 1: 1N4007-ND; Packing: Bulk Bag; RoHS: TRUE; Type: Standard Recovery; Mounting Technology: Through Hole; ComponentLink1Description: Manufacturer URL; ComponentLink1URL: http://www.onsemi.com/; ComponentLink2Description: Datasheet; ComponentLink2URL: http://www.onsemi.com/pub_link/Collateral/1N4001-D.PDF; ComponentLink3Description: Package Specification; ComponentLink3URL: http://www.onsemi.cn/pub_link/Collateral/59-10.PDF
footprint ONSC-AXIAL_LEAD-2-59-10_P (AXIAL, 2-Leads, Diameter 2.35mm)
pins: 1 K, 2 A

## 1N4007FF
designator D?
Standard Recovery Rectifier, 2-Pin Axial_Lead, Pb-Free, Bulk Box; Manufacturer: On Semiconductor; PartNumber: 1N4007FF; IFSM Max (A): 30; IO(rec) Max (A): 1; VRRM Max (V): 1000; DatasheetVersion: Rev. 13; PackageVersion: Rev. U, 02/2005; PackageReference: AXIAL_LEAD-2-59-10; PackageDescription: 2-Pin, Axial Lead, Diameter 2.35 mm; Supplier 1: Digi-Key; Supplier Part Number 1: 1N4007FF-ND; Supplier 2: Mouser; Supplier Part Number 2: 863-1N4007FF; Packing: Bulk Box; RoHS: TRUE; Type: Standard Recovery; Mounting Technology: Through Hole; ComponentLink1Description: Manufacturer URL; ComponentLink1URL: http://www.onsemi.com/; ComponentLink2Description: Datasheet; ComponentLink2URL: http://www.onsemi.com/pub_link/Collateral/1N4001-D.PDF; ComponentLink3Description: Package Specification; ComponentLink3URL: http://www.onsemi.cn/pub_link/Collateral/59-10.PDF
footprint ONSC-AXIAL_LEAD-2-59-10_P (AXIAL, 2-Leads, Diameter 2.35mm)
pins: 1 K, 2 A

## 1N4007FFG
designator D?
Standard Recovery Rectifier, 2-Pin Axial_Lead, Pb-Free, Bulk Box; Manufacturer: On Semiconductor; PartNumber: 1N4007FFG; IFSM Max (A): 30; IO(rec) Max (A): 1; VRRM Max (V): 1000; DatasheetVersion: Rev. 13; PackageVersion: Rev. U, 02/2005; PackageReference: AXIAL_LEAD-2-59-10; PackageDescription: 2-Pin, Axial Lead, Diameter 2.35 mm; Supplier 1: Digi-Key; Supplier Part Number 1: 1N4007FFG-ND; Supplier 2: Newark; Supplier Part Number 2: 42K2830; Supplier 3: Mouser; Supplier Part Number 3: 863-1N4007FFG; Packing: Bulk Box; RoHS: TRUE; Type: Standard Recovery; Mounting Technology: Through Hole; ComponentLink1Description: Manufacturer URL; ComponentLink1URL: http://www.onsemi.com/; ComponentLink2Description: Datasheet; ComponentLink2URL: http://www.onsemi.com/pub_link/Collateral/1N4001-D.PDF; ComponentLink3Description: Package Specification; ComponentLink3URL: http://www.onsemi.cn/pub_link/Collateral/59-10.PDF
footprint ONSC-AXIAL_LEAD-2-59-10_P (AXIAL, 2-Leads, Diameter 2.35mm)
pins: 1 K, 2 A

## 1N4007G
designator D?
Standard Recovery Rectifier, 2-Pin Axial_Lead, Pb-Free, Bulk Bag; Manufacturer: On Semiconductor; PartNumber: 1N4007G; IFSM Max (A): 30; IO(rec) Max (A): 1; VRRM Max (V): 1000; DatasheetVersion: Rev. 13; PackageVersion: Rev. U, 02/2005; PackageReference: AXIAL_LEAD-2-59-10; PackageDescription: 2-Pin, Axial Lead, Diameter 2.35 mm; Supplier 1: Digi-Key; Supplier Part Number 1: 1N4007GOS-ND; Supplier 2: Farnell; Supplier Part Number 2: 1458987; Supplier 3: Newark; Supplier Part Number 3: 42K2831; Supplier 4: Mouser; Supplier Part Number 4: 863-1N4007G; Packing: Bulk Bag; RoHS: TRUE; Type: Standard Recovery; Mounting Technology: Through Hole; ComponentLink1Description: Manufacturer URL; ComponentLink1URL: http://www.onsemi.com/; ComponentLink2Description: Datasheet; ComponentLink2URL: http://www.onsemi.com/pub_link/Collateral/1N4001-D.PDF; ComponentLink3Description: Package Specification; ComponentLink3URL: http://www.onsemi.cn/pub_link/Collateral/59-10.PDF
footprint ONSC-AXIAL_LEAD-2-59-10_P (AXIAL, 2-Leads, Diameter 2.35mm)
pins: 1 K, 2 A

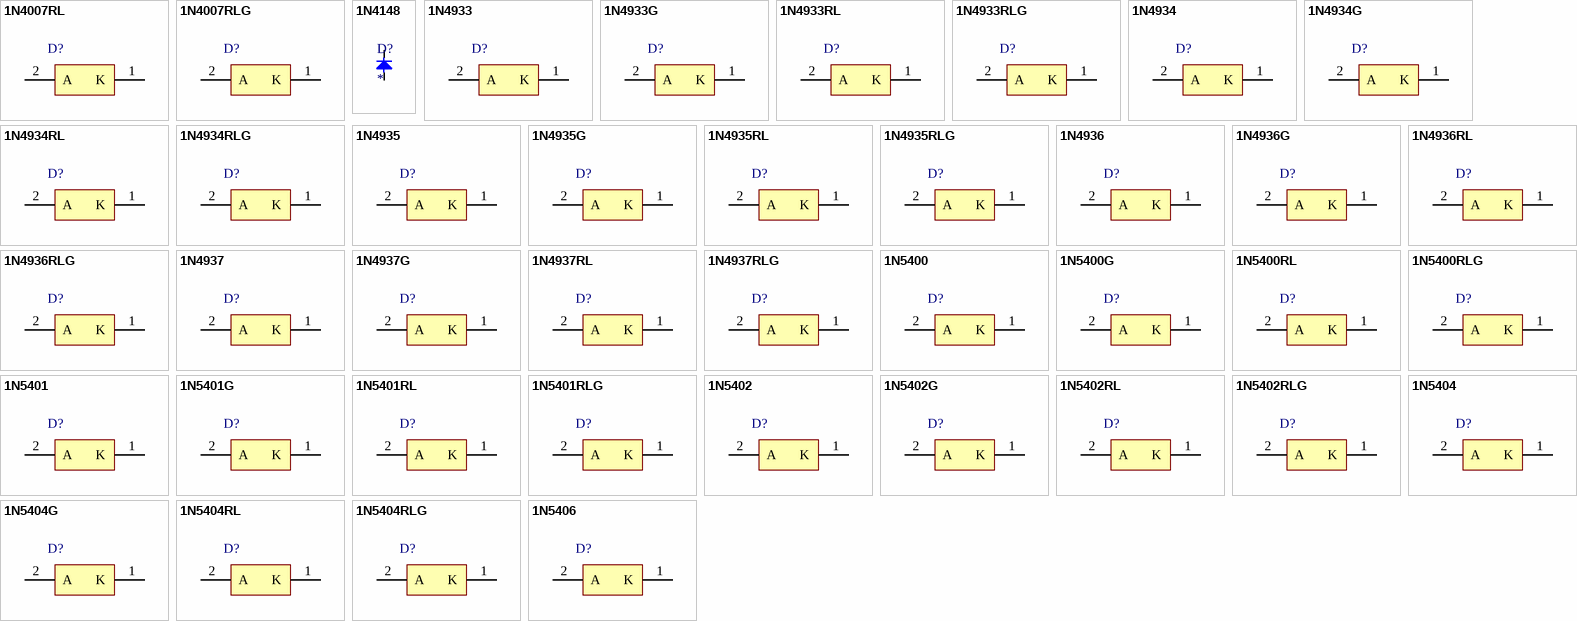
[diagram p1: symbols 1N4007RL to 1N5406]

## 1N4007RL
designator D?
Standard Recovery Rectifier, 2-Pin Axial_Lead, Pb-Free, Tape and Reel; Manufacturer: On Semiconductor; PartNumber: 1N4007RL; IFSM Max (A): 30; IO(rec) Max (A): 1; VRRM Max (V): 1000; DatasheetVersion: Rev. 13; PackageVersion: Rev. U, 02/2005; PackageReference: AXIAL_LEAD-2-59-10; PackageDescription: 2-Pin, Axial Lead, Diameter 2.35 mm; Supplier 1: Digi-Key; Supplier Part Number 1: 1N4007RLOSTR-ND; Supplier 2: Digi-Key; Supplier Part Number 2: 1N4007RLOSCT-ND; Supplier 3: Mouser; Supplier Part Number 3: 863-1N4007RL; Packing: Tape and Reel; RoHS: TRUE; Type: Standard Recovery; Mounting Technology: Through Hole; ComponentLink1Description: Manufacturer URL; ComponentLink1URL: http://www.onsemi.com/; ComponentLink2Description: Datasheet; ComponentLink2URL: http://www.onsemi.com/pub_link/Collateral/1N4001-D.PDF; ComponentLink3Description: Package Specification; ComponentLink3URL: http://www.onsemi.cn/pub_link/Collateral/59-10.PDF
footprint ONSC-AXIAL_LEAD-2-59-10_P (AXIAL, 2-Leads, Diameter 2.35mm)
pins: 1 K, 2 A

## 1N4007RLG
designator D?
Standard Recovery Rectifier, 2-Pin Axial_Lead, Pb-Free, Tape and Reel; Manufacturer: On Semiconductor; PartNumber: 1N4007RLG; IFSM Max (A): 30; IO(rec) Max (A): 1; VRRM Max (V): 1000; DatasheetVersion: Rev. 13; PackageVersion: Rev. U, 02/2005; PackageReference: AXIAL_LEAD-2-59-10; PackageDescription: 2-Pin, Axial Lead, Diameter 2.35 mm; Supplier 1: Digi-Key; Supplier Part Number 1: 1N4007RLGOSTR-ND; Supplier 2: Digi-Key; Supplier Part Number 2: 1N4007RLGOSCT-ND; Supplier 3: Farnell; Supplier Part Number 3: 2317417; Supplier 4: Farnell; Supplier Part Number 4: 2317678; Supplier 5: Newark; Supplier Part Number 5: 42K2832; Supplier 6: Newark; Supplier Part Number 6: 83K4250; Supplier 7: Mouser; Supplier Part Number 7: 863-1N4007RLG; Packing: Tape and Reel; RoHS: TRUE; Type: Standard Recovery; Mounting Technology: Through Hole; ComponentLink1Description: Manufacturer URL; ComponentLink1URL: http://www.onsemi.com/; ComponentLink2Description: Datasheet; ComponentLink2URL: http://www.onsemi.com/pub_link/Collateral/1N4001-D.PDF; ComponentLink3Description: Package Specification; ComponentLink3URL: http://www.onsemi.cn/pub_link/Collateral/59-10.PDF
footprint ONSC-AXIAL_LEAD-2-59-10_P (AXIAL, 2-Leads, Diameter 2.35mm)
pins: 1 K, 2 A

## 1N4148
designator D?
Supplier 1: Digi-Key; Supplier Part Number 1: 1N4148WXTPMSCT-ND
footprint SOD-323
pins: A, K

## 1N4933
designator D?
Fast-Recovery Rectifier, 2-Pin Axial_Lead, Pb-Free, Bulk Bag; Manufacturer: On Semiconductor; PartNumber: 1N4933; IFSM Max (A): 30; IO(rec) Max (A): 1; Type: Fast Recovery; VRRM Max (V): 50; DatasheetVersion: Rev. 12; PackageVersion: Rev. U, 02/2005; PackageReference: AXIAL_LEAD-2-59-10; PackageDescription: 2-Pin, Axial Lead, Diameter 2.35 mm; Supplier 1: Digi-Key; Supplier Part Number 1: 1N4933OS-ND; Packing: Bulk Bag; RoHS: TRUE; Mounting Technology: Through Hole; ComponentLink1Description: Manufacturer URL; ComponentLink1URL: http://www.onsemi.com/; ComponentLink2Description: Datasheet; ComponentLink2URL: http://www.onsemi.com/pub_link/Collateral/1N4933-D.PDF; ComponentLink3Description: Package Specification; ComponentLink3URL: http://www.onsemi.cn/pub_link/Collateral/59-10.PDF
footprint ONSC-AXIAL_LEAD-2-59-10_P (AXIAL, 2-Leads, Diameter 2.35mm)
pins: 1 K, 2 A

## 1N4933G
designator D?
Fast-Recovery Rectifier, 2-Pin Axial_Lead, Pb-Free, Bulk Bag; Manufacturer: On Semiconductor; PartNumber: 1N4933G; IFSM Max (A): 30; IO(rec) Max (A): 1; Type: Fast Recovery; VRRM Max (V): 50; DatasheetVersion: Rev. 12; PackageVersion: Rev. U, 02/2005; PackageReference: AXIAL_LEAD-2-59-10; PackageDescription: 2-Pin, Axial Lead, Diameter 2.35 mm; Supplier 1: Digi-Key; Supplier Part Number 1: 1N4933GOS-ND; Supplier 2: Newark; Supplier Part Number 2: 42K2833; Supplier 3: Mouser; Supplier Part Number 3: 863-1N4933G; Packing: Bulk Bag; RoHS: TRUE; Mounting Technology: Through Hole; ComponentLink1Description: Manufacturer URL; ComponentLink1URL: http://www.onsemi.com/; ComponentLink2Description: Datasheet; ComponentLink2URL: http://www.onsemi.com/pub_link/Collateral/1N4933-D.PDF; ComponentLink3Description: Package Specification; ComponentLink3URL: http://www.onsemi.cn/pub_link/Collateral/59-10.PDF
footprint ONSC-AXIAL_LEAD-2-59-10_P (AXIAL, 2-Leads, Diameter 2.35mm)
pins: 1 K, 2 A

## 1N4933RL
designator D?
Fast-Recovery Rectifier, 2-Pin Axial_Lead, Pb-Free, Tape and Reel; Manufacturer: On Semiconductor; PartNumber: 1N4933RL; IFSM Max (A): 30; IO(rec) Max (A): 1; Type: Fast Recovery; VRRM Max (V): 50; DatasheetVersion: Rev. 12; PackageVersion: Rev. U, 02/2005; PackageReference: AXIAL_LEAD-2-59-10; PackageDescription: 2-Pin, Axial Lead, Diameter 2.35 mm; Supplier 1: Digi-Key; Supplier Part Number 1: 1N4933RLOSTR-ND; Supplier 2: Digi-Key; Supplier Part Number 2: 1N4933RLOSCT-ND; Supplier 3: Mouser; Supplier Part Number 3: 863-1N4933RL; Packing: Tape and Reel; RoHS: TRUE; Mounting Technology: Through Hole; ComponentLink1Description: Manufacturer URL; ComponentLink1URL: http://www.onsemi.com/; ComponentLink2Description: Datasheet; ComponentLink2URL: http://www.onsemi.com/pub_link/Collateral/1N4933-D.PDF; ComponentLink3Description: Package Specification; ComponentLink3URL: http://www.onsemi.cn/pub_link/Collateral/59-10.PDF
footprint ONSC-AXIAL_LEAD-2-59-10_P (AXIAL, 2-Leads, Diameter 2.35mm)
pins: 1 K, 2 A

## 1N4933RLG
designator D?
Fast-Recovery Rectifier, 2-Pin Axial_Lead, Pb-Free, Tape and Reel; Manufacturer: On Semiconductor; PartNumber: 1N4933RLG; IFSM Max (A): 30; IO(rec) Max (A): 1; Type: Fast Recovery; VRRM Max (V): 50; DatasheetVersion: Rev. 12; PackageVersion: Rev. U, 02/2005; PackageReference: AXIAL_LEAD-2-59-10; PackageDescription: 2-Pin, Axial Lead, Diameter 2.35 mm; Supplier 1: Digi-Key; Supplier Part Number 1: 1N4933RLGOSTR-ND; Supplier 2: Digi-Key; Supplier Part Number 2: 1N4933RLGOSCT-ND; Supplier 3: Newark; Supplier Part Number 3: 42K2834; Supplier 4: Mouser; Supplier Part Number 4: 863-1N4933RLG; Packing: Tape and Reel; RoHS: TRUE; Mounting Technology: Through Hole; ComponentLink1Description: Manufacturer URL; ComponentLink1URL: http://www.onsemi.com/; ComponentLink2Description: Datasheet; ComponentLink2URL: http://www.onsemi.com/pub_link/Collateral/1N4933-D.PDF; ComponentLink3Description: Package Specification; ComponentLink3URL: http://www.onsemi.cn/pub_link/Collateral/59-10.PDF
footprint ONSC-AXIAL_LEAD-2-59-10_P (AXIAL, 2-Leads, Diameter 2.35mm)
pins: 1 K, 2 A

## 1N4934
designator D?
Fast-Recovery Rectifier, 2-Pin Axial_Lead, Pb-Free, Bulk Bag; Manufacturer: On Semiconductor; PartNumber: 1N4934; IFSM Max (A): 30; IO(rec) Max (A): 1; Type: Fast Recovery; VRRM Max (V): 100; DatasheetVersion: Rev. 12; PackageVersion: Rev. U, 02/2005; PackageReference: AXIAL_LEAD-2-59-10; PackageDescription: 2-Pin, Axial Lead, Diameter 2.35 mm; Supplier 1: Digi-Key; Supplier Part Number 1: 1N4934OS-ND; Packing: Bulk Bag; RoHS: TRUE; Mounting Technology: Through Hole; ComponentLink1Description: Manufacturer URL; ComponentLink1URL: http://www.onsemi.com/; ComponentLink2Description: Datasheet; ComponentLink2URL: http://www.onsemi.com/pub_link/Collateral/1N4933-D.PDF; ComponentLink3Description: Package Specification; ComponentLink3URL: http://www.onsemi.cn/pub_link/Collateral/59-10.PDF
footprint ONSC-AXIAL_LEAD-2-59-10_P (AXIAL, 2-Leads, Diameter 2.35mm)
pins: 1 K, 2 A

## 1N4934G
designator D?
Fast-Recovery Rectifier, 2-Pin Axial_Lead, Pb-Free, Bulk Bag; Manufacturer: On Semiconductor; PartNumber: 1N4934G; IFSM Max (A): 30; IO(rec) Max (A): 1; Type: Fast Recovery; VRRM Max (V): 100; DatasheetVersion: Rev. 12; PackageVersion: Rev. U, 02/2005; PackageReference: AXIAL_LEAD-2-59-10; PackageDescription: 2-Pin, Axial Lead, Diameter 2.35 mm; Supplier 1: Digi-Key; Supplier Part Number 1: 1N4934GOS-ND; Supplier 2: Farnell; Supplier Part Number 2: 1126304; Supplier 3: Newark; Supplier Part Number 3: 42K2835; Supplier 4: Mouser; Supplier Part Number 4: 863-1N4934G; Packing: Bulk Bag; RoHS: TRUE; Mounting Technology: Through Hole; ComponentLink1Description: Manufacturer URL; ComponentLink1URL: http://www.onsemi.com/; ComponentLink2Description: Datasheet; ComponentLink2URL: http://www.onsemi.com/pub_link/Collateral/1N4933-D.PDF; ComponentLink3Description: Package Specification; ComponentLink3URL: http://www.onsemi.cn/pub_link/Collateral/59-10.PDF
footprint ONSC-AXIAL_LEAD-2-59-10_P (AXIAL, 2-Leads, Diameter 2.35mm)
pins: 1 K, 2 A